# Altium footprint library SOP.PcbLib: 1 footprints
Each footprint in its own frame and in the unit in brackets; x right, y up, seen from the top. Pads: shape width x height; smd on the part's side, far side on the other; paste and mask are expansions set on the pad; w line width, h text height; cw(c..) or ccw(c..) is an arc to the next point about the centre after c.
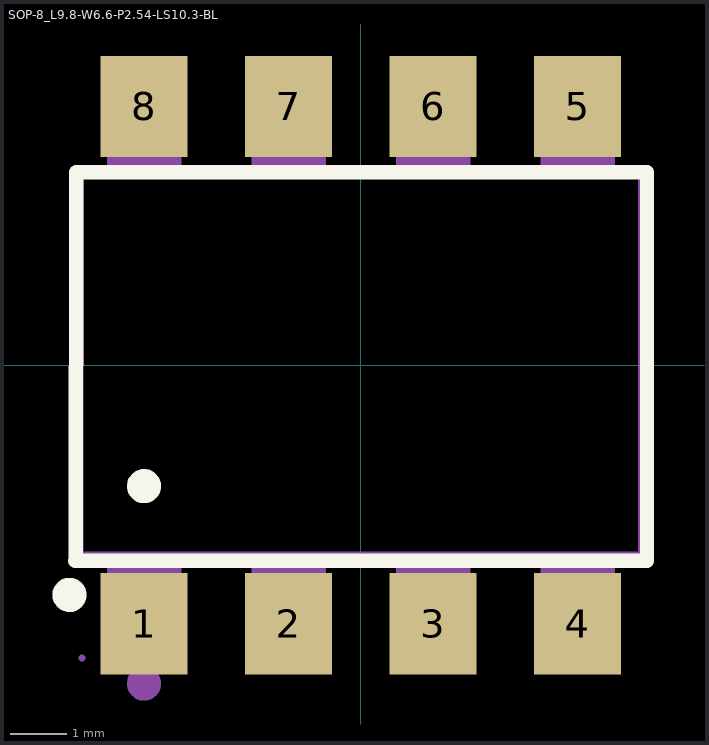
[diagram p0: the footprint, top view; thin cyan lines are the x and y axes]

## SOP-8_L9.8-W6.6-P2.54-LS10.3-BL [mm]
pads (8):
  rect 1.525x1.78 smd: 1(-3.81,-4.545) 2(-1.27,-4.545) 3(1.27,-4.545) 4(3.81,-4.545) 5(3.81,4.545) 6(1.27,4.545) 7(-1.27,4.545) 8(-3.81,4.545)
Top Overlay:
  circle w0.3: c-5.12,-4.04 r0.15
  circle w0.3: c-3.81,-2.129 r0.15
  lines w0.254: -5.02,-3.44 5.03,-3.44 5.03,3.39 4.29,3.39 -5,3.39 -5.01,-3.42
Mechanical 6:
  circle w0.3: c-3.81,-5.6 r0.15
Mechanical 15:
  region: -4.46,-5.15 -4.46,-4.2 -3.16,-4.2 -3.16,-5.15
  region: -4.46,-4.21 -4.46,-3.29 -3.16,-3.29 -3.16,-4.21
  region: -1.92,-5.15 -1.92,-4.2 -0.62,-4.2 -0.62,-5.15
  region: -1.92,-4.21 -1.92,-3.29 -0.62,-3.29 -0.62,-4.21
  region: 0.62,-5.15 0.62,-4.2 1.92,-4.2 1.92,-5.15
  region: 0.62,-4.21 0.62,-3.29 1.92,-3.29 1.92,-4.21
  region: 3.16,-5.15 3.16,-4.2 4.46,-4.2 4.46,-5.15
  region: 3.16,-4.21 3.16,-3.29 4.46,-3.29 4.46,-4.21
  region: -4.46,4.2 -4.46,5.15 -3.16,5.15 -3.16,4.2
  region: -4.46,3.29 -4.46,4.21 -3.16,4.21 -3.16,3.29
  region: -1.92,4.2 -1.92,5.15 -0.62,5.15 -0.62,4.2
  region: -1.92,3.29 -1.92,4.21 -0.62,4.21 -0.62,3.29
  region: 0.62,4.2 0.62,5.15 1.92,5.15 1.92,4.2
  region: 0.62,3.29 0.62,4.21 1.92,4.21 1.92,3.29
  region: 3.16,4.2 3.16,5.15 4.46,5.15 4.46,4.2
  region: 3.16,3.29 3.16,4.21 4.46,4.21 4.46,3.29
  region: -4.84,-5.15 -4.84,-5.126 -4.875,-5.091 -4.924,-5.091 -4.959,-5.126 -4.96,-5.15 -4.959,-5.175 -4.924,-5.209 -4.875,-5.209 -4.84,-5.175
  lines w0.051: -4.9,-3.3 4.9,-3.3 4.9,3.3 -4.9,3.3 -4.9,-3.3
3D body "U1.step": height 4.3, standoff 0, extent -4.9,-5.15 4.9,5.15